# Altium schematic symbol library JMPR1x2.Schlib: 1 symbol
Pins are listed as number, name and electrical type; pins without a type are passive.

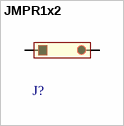
[diagram p0: symbol JMPR1x2]

## JMPR1x2
designator J?  (value not drawn)
Jumper, 1x2
footprint HDR1X2
pins: 1, 2